# Altium footprint library MCXE31B.PcbLib: 35 footprints (part 1 of 3)
Each footprint in its own frame and in the unit in brackets; x right, y up, seen from the top. Pads: shape width x height; smd on the part's side, far side on the other; paste and mask are expansions set on the pad; w line width, h text height; cw(c..) or ccw(c..) is an arc to the next point about the centre after c.
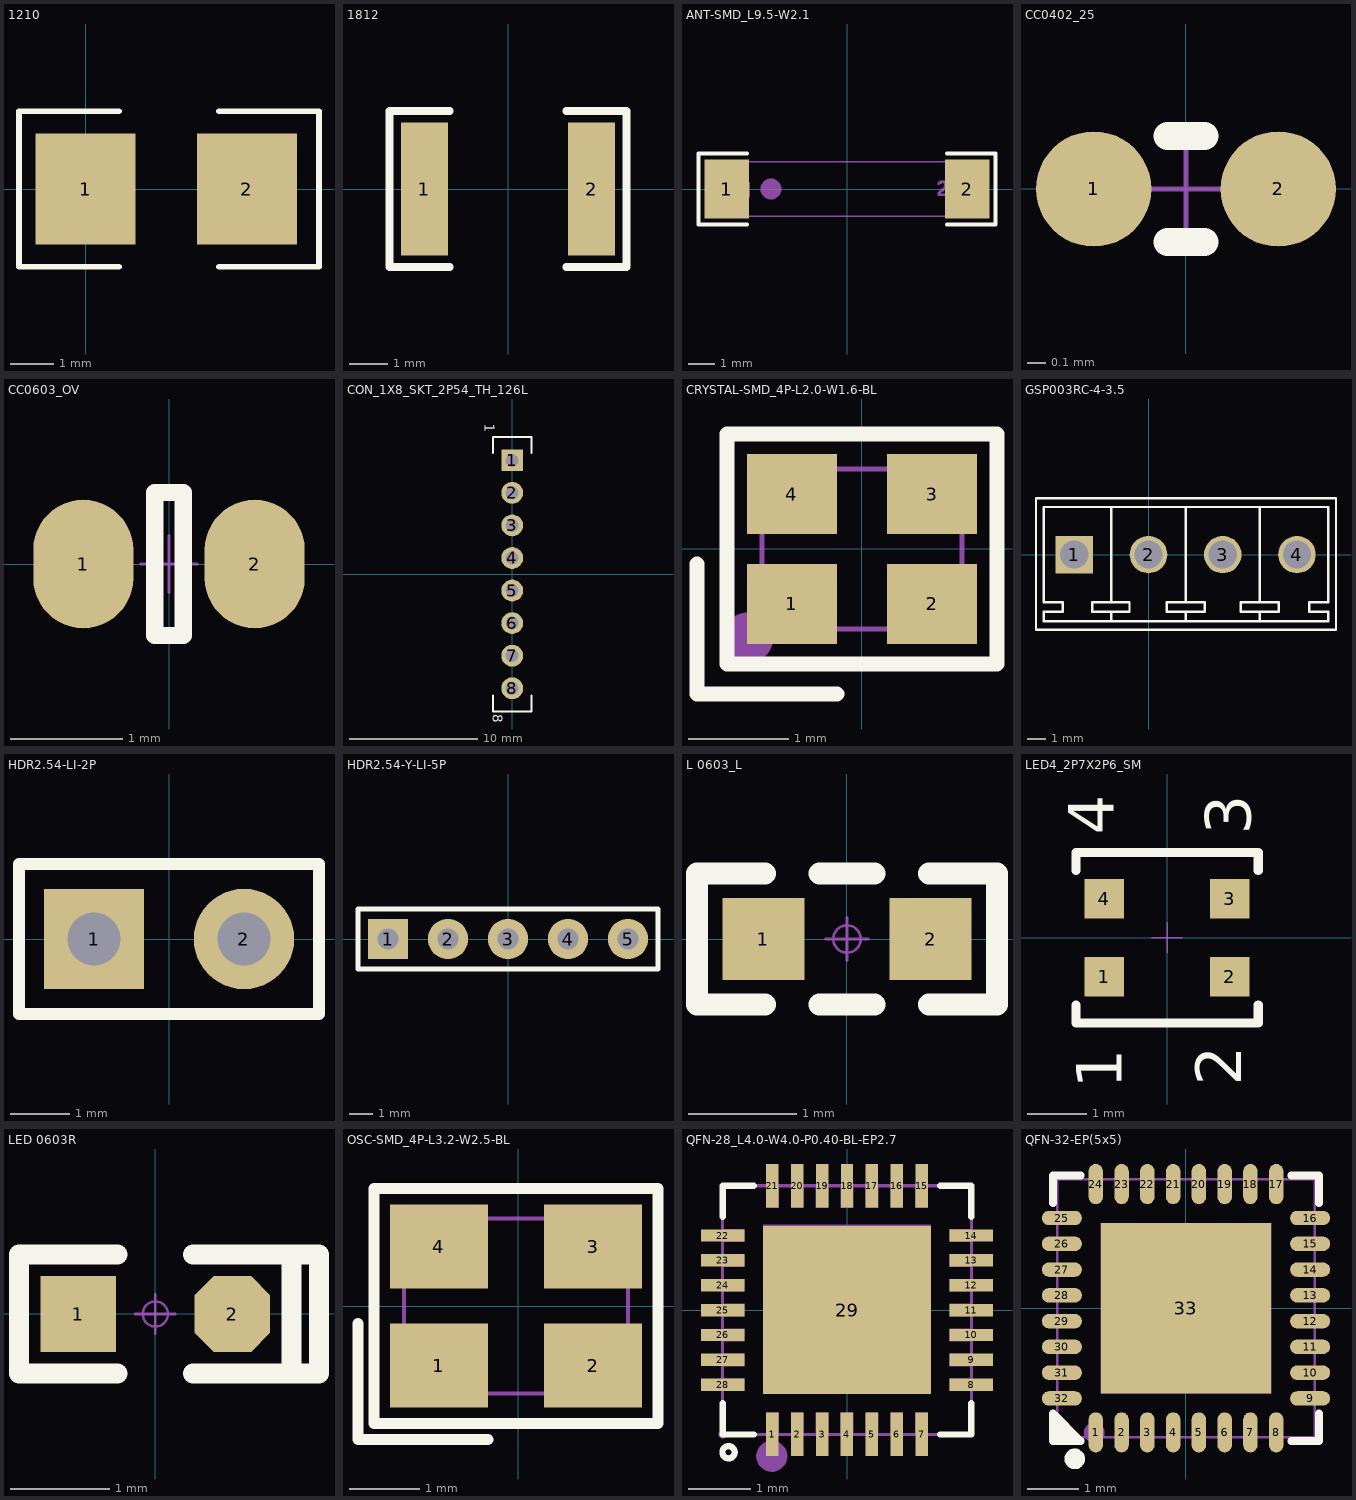
[diagram p0: the footprints below, top view; thin cyan lines are the x and y axes]

## 1210 [mil]
height 609.84
pads (2):
  rect 90x100 smd: 1(0,0) 2(145,0)
Top Overlay:
  lines w5: 30,-70 -60,-70 -60,70 30,70 ; 120,-70 210,-70 210,70 120,70

## 1812 [mm]
height 1.5
pads (2):
  rect 1.2x3.42 smd: 1(-2.15,0) 2(2.15,0)
Top Overlay:
  lines w0.2: -1.5,-2.01 -3.05,-2.01 -3.05,2.01 -1.5,2.01 ; 1.5,-2.01 3.05,-2.01 3.05,2.01 1.5,2.01
3D body "R1812.STEP": height 0.59, standoff -0.01, extent -2.251,-1.601 2.249,1.599

## ANT-SMD_L9.5-W2.1 [mm]
height 13.3
pads (2):
  rect 1.71x2.268 smd paste-100 mask+0.051: 1(-4.63,0) 2(4.63,0)
Top Overlay:
  lines w0.152: -3.851,-1.363 -5.714,-1.363 -5.714,1.363 -3.851,1.363 ; 3.851,-1.363 5.714,-1.363 5.714,1.363 3.851,1.363
Top Paste:
  region: -3.775,-1.034 -3.775,-0.486 -3.875,-0.386 -4.256,-0.386 -4.356,-0.286 -4.356,0.286 -4.256,0.386 -3.875,0.386 -3.775,0.486 -3.775,1.034 -3.875,1.134 -5.385,1.134 -5.485,1.034 -5.485,-1.034 -5.385,-1.134 -3.875,-1.134
  region: 3.775,-1.034 3.775,-0.486 3.875,-0.386 4.256,-0.386 4.356,-0.286 4.356,0.286 4.256,0.386 3.875,0.386 3.775,0.486 3.775,1.034 3.875,1.134 5.385,1.134 5.485,1.034 5.485,-1.034 5.385,-1.134 3.875,-1.134
Bottom Courtyard:
  drawing of 34 lines, arcs and shapes, not listed
Top 3D Body:
  lines w0.051: -4.75,-1.05 4.75,-1.05 4.75,1.05 -4.75,1.05 -4.75,-1.05
Bottom 3D Body:
  region: -4.75,-0.99 -4.725,-0.99 -4.69,-1.025 -4.69,-1.075 -4.725,-1.11 -4.75,-1.11 -4.775,-1.11 -4.81,-1.075 -4.81,-1.025 -4.775,-0.99 -4.75,-0.99
Top Component Center:
  region: -4.75,-1.05 -4.75,1.05 -4.1,1.05 -4.1,-1.05
  region: 4.75,-1.05 4.75,1.05 4.1,1.05 4.1,-1.05

## CC0402_25 [mil]
height 523.62
pads (2):
  round 25 smd: 1(-20,0) 2(20,0)
Top Overlay:
  lines w6: -4,-11.5 4,-11.5 ; -4,11.5 4,11.5
Top Component Center:
  lines w1: -10,0 10,0 ; 0,-10 0,10

## CC0603_OV [mil]
pads (2):
  oval 35x45 smd: 1(-30,0) 2(30,0)
Top Overlay:
  lines w6: -5,-25 5,-25 5,25 -5,25 -5,-25
Top Component Center:
  lines w1: -10,0 10,0 ; 0,-10 0,10

## CON_1X8_SKT_2P54_TH_126L [mil]
pads (8):
  rect 67x67 / inner round 0 / far side rect 67x67 hole 40: 1(0.05,349.98)
  round 67 / inner round 0 / far side round 67 hole 40: 2(0.05,249.98) 3(0.05,149.98) 4(0.05,49.98) 5(0.05,-50.02) 6(0.05,-150.02) 7(0.05,-250.02) 8(0.05,-350.02)
Top Overlay:
  lines w6: -59.11,-371.79 -59.11,-421.79 59.22,-421.79 59.22,-371.79 ; -59.11,371.74 -59.11,421.74 59.22,421.74 59.22,371.74
  text "1" at -85.05,462.02 h30
  text "8" at -59.05,-428.98 h30
Bottom Overlay:
  text "1" at -16.6,415.42 h30
  text "8" at -10.05,-429.98 h30
  text ".Designator" at 17.3,452.23 h30
Top Component Center:
  lines w1: -9.95,349.98 10.05,349.98 ; 0.05,339.98 0.05,359.98

## CRYSTAL-SMD_4P-L2.0-W1.6-BL [mm]
height 13.3
pads (4):
  rect 0.9x0.8 smd paste+0.051: 1(-0.7,-0.55) 2(0.7,-0.55) 3(0.7,0.55) 4(-0.7,0.55)
Top Overlay:
  lines w0.152: -1.65,-0.15 -1.65,-1.45 -0.25,-1.45 ; -1.35,-1.15 -1.35,1.15 1.35,1.15 1.35,-1.15 -1.35,-1.15
Bottom Courtyard:
  circle w0.254: c-1.143,-0.889 r0.127
Top 3D Body:
  lines w0.051: -1,-0.8 1,-0.8 1,0.8 -1,0.8 -1,-0.8
Bottom 3D Body:
  region: -1.06,-0.8 -1.06,-0.775 -1.025,-0.74 -0.975,-0.74 -0.94,-0.775 -0.94,-0.8 -0.94,-0.825 -0.975,-0.86 -1.025,-0.86 -1.06,-0.825 -1.06,-0.8
Top Component Center:
  region: 0.95,0.75 0.95,0.275 0.375,0.275 0.375,0.75
  region: 0.95,-0.275 0.95,-0.75 0.375,-0.75 0.375,-0.275
  region: -0.95,-0.75 -0.95,-0.275 -0.375,-0.275 -0.375,-0.75
  region: -0.95,0.275 -0.95,0.75 -0.375,0.75 -0.375,0.275

## GSP003RC-4-3.5 [mm]
height 7
pads (4):
  rect 2x2 hole 1.5: 1(-3.96,0)
  round 2 hole 1.5: 2(0,0) 3(3.96,0) 4(7.92,0)
Top Overlay:
  lines w0.127: -2.032,-3.048 -1.016,-3.048 -1.016,-2.54 -2.032,-2.54 ; -1.98,-3.556 -1.98,-3.048 -2.996,-3.048 -2.996,-2.54 -1.98,-2.54 -1.98,2.54 ; 1.524,-3.556 5.588,-3.556 9.588,-3.556 9.588,-3.048 8.572,-3.048 8.572,-2.54 9.588,-2.54 9.588,2.54 2.032,2.54 ; 1.98,-3.556 1.98,-3.048 ; 1.98,2.54 1.98,-2.54 ; 2.54,-3.556 -1.524,-3.556 -5.588,-3.556 -5.588,-3.048 -4.572,-3.048 -4.572,-2.54 -5.588,-2.54 -5.588,2.54 -5.08,2.54 -1.524,2.54 2.54,2.54 ; 5.94,-3.556 5.94,-3.048 ; 5.94,2.54 5.94,-2.54 ; 1.98,-3.048 0.964,-3.048 0.964,-2.54 1.98,-2.54 ; 1.98,-3.048 2.996,-3.048 2.996,-2.54 1.98,-2.54 ; 5.94,-3.048 4.924,-3.048 4.924,-2.54 5.94,-2.54 ; 5.94,-3.048 6.956,-3.048 6.956,-2.54 5.94,-2.54 ; -6,-4 6,-4 10,-4 10,3 -6,3 -6,-4

## HDR2.54-LI-2P [mm] "排针，2脚"
pads (2):
  rect 1.7x1.7 hole 0.9: 1(-1.27,0)
  round 1.7 hole 0.9: 2(1.27,0)
Top Overlay:
  lines w0.2: -2.54,-1.27 2.54,-1.27 2.54,1.27 -2.54,1.27 -2.54,-1.27
3D body "HDR2.54-1P.STEP": height 8.5, standoff -3, extent -2.54,-1.27 0,1.27
3D body "HDR2.54-1P.STEP": height 8.5, standoff -3, extent 0,-1.27 2.54,1.27

## HDR2.54-Y-LI-5P [mm] "圆孔排母，5脚"
height 13.3
pads (5):
  rect 1.7x1.7 hole 0.9: 1(-5.08,0)
  round 1.7 hole 0.9: 2(-2.54,0) 3(0,0) 4(2.54,0) 5(5.08,0)
Top Overlay:
  lines w0.2: -6.35,-1.27 -6.35,1.27 6.35,1.27 6.35,-1.27 -6.35,-1.27
3D body "HDR-1P_Y.STEP": height 4.31, standoff -3, extent -6.35,-1.27 -3.81,1.27
3D body "HDR-1P_Y.STEP": height 4.31, standoff -3, extent -3.81,-1.27 -1.27,1.27
3D body "HDR-1P_Y.STEP": height 4.31, standoff -3, extent -1.27,-1.27 1.27,1.27
3D body "HDR-1P_Y.STEP": height 4.31, standoff -3, extent 1.27,-1.27 3.81,1.27
3D body "HDR-1P_Y.STEP": height 4.31, standoff -3, extent 3.81,-1.27 6.35,1.27

## L 0603_L [mil] "小功率贴片电感"
pads (2):
  rect 30x30 smd: 1(-30.59,0) 2(30.59,0)
Top Overlay:
  lines w8: -30,-24 -54.82,-24 -54.82,24 -30,24 ; -10,-24 10,-24 ; -10,24 10,24 ; 30,-24 54.83,-24 54.83,24 30,24
Mechanical 15:
  circle w1: c0,0 r5
  lines w1: -7.87,0 7.88,0 ; 0,-7.87 0,7.88
3D body "0603.STEP": height 31.5, standoff -0.11, extent -31.49,-15.74 31.5,15.75

## LED4_2P7X2P6_SM [mil]
pads (4):
  rect 26x26 smd: 1(-41.3,-25.6) 2(41.3,-25.6) 3(41.3,25.6) 4(-41.3,25.6)
Top Overlay:
  lines w6: -60.1,-44.3 -60.1,-56.2 60.1,-56.2 60.1,-44.3 ; -60.1,44.3 -60.1,56.2 60.1,56.2 60.1,44.3
  text "2" at 48.8,-97.5 h30
  text "4" at -35,68 h30
  text "3" at 55,68 h30
  text "1" at -29.9,-99.7 h30
Top Component Center:
  lines w1: -10,0 10,0 ; 0,-10 0,10

## LED 0603R [mil] "红色0603LED"
height 523.62
pads (2):
  rect 30x30 smd: 1(-30.59,0)
  oct 30x30 smd: 2(30.59,0)
Top Overlay:
  lines w8: -15.01,-23.63 -54.14,-23.63 -54.14,23.62 -15.01,23.62 ; 14.99,-23.63 65,-23.63 65,23.62 14.99,23.62 ; 54.13,-23.63 54.13,23.62
Mechanical 15:
  circle w1: c0,0 r5
  lines w1: -7.88,0 7.87,0 ; 0,-7.88 0,7.87
3D body "LED 0603-R.STEP": height 18.36, standoff -0.16, extent -31.49,-15.78 31.5,15.79
3D body "LED 0603玻璃罩.STEP": height 23.82, standoff 8.07, extent -23.63,-15.75 23.62,15.74

## OSC-SMD_4P-L3.2-W2.5-BL [mm]
pads (4):
  rect 1.4x1.2 smd: 1(-1.129,-0.848) 2(1.071,-0.848) 3(1.071,0.852) 4(-1.129,0.852)
Top Overlay:
  lines w0.152: -2.286,-0.248 -2.286,-1.905 -0.429,-1.905 ; -2.057,-1.676 2,-1.676 2,1.681 -2.057,1.681 -2.057,-1.676
Bottom Courtyard:
  circle w0.254: c-1.299,-0.887 r0.127
Mechanical 15:
  region: -1.529,-0.348 -0.629,-0.348 -0.629,-1.148 -1.529,-1.148
  region: 0.571,-0.348 1.471,-0.348 1.471,-1.148 0.571,-1.148
  region: 0.571,1.152 1.471,1.152 1.471,0.352 0.571,0.352
  region: -1.529,1.152 -0.629,1.152 -0.629,0.352 -1.529,0.352
  region: -1.569,-1.248 -1.57,-1.224 -1.605,-1.19 -1.653,-1.19 -1.687,-1.224 -1.689,-1.248 -1.688,-1.272 -1.653,-1.305 -1.605,-1.305 -1.57,-1.272
  lines w0.051: -1.629,-1.248 1.571,-1.248 1.571,1.252 -1.629,1.252 -1.629,-1.248

## QFN-28_L4.0-W4.0-P0.40-BL-EP2.7 [mm]
pads (29):
  rect 0.2x0.7 smd paste-100 mask+0.051: 1(-1.2,-2) 2(-0.8,-2) 3(-0.4,-2) 4(-0.001,-2) 5(0.4,-2) 6(0.8,-2) 7(1.2,-2) 15(1.2,2) 16(0.8,2) 17(0.4,2) 18(0,2) 19(-0.4,2) 20(-0.8,2) 21(-1.2,2)
  rect 0.7x0.2 smd paste-100 mask+0.051: 8(2,-1.2) 9(2,-0.8) 10(2,-0.4) 11(1.999,0) 12(2,0.4) 13(2,0.8) 14(2,1.2) 22(-2,1.2) 23(-2,0.8) 24(-2,0.4) 25(-2,0) 26(-2,-0.4) 27(-2,-0.8) 28(-2,-1.2)
  rect 2.7x2.7 smd paste-100 mask+0.051: 29(0,0)
Top Overlay:
  circle w0.1: c-1.905,-2.286 r0.099
  lines w0.102: -2,-1.5 -2,-2 -1.5,-2 ; -2,1.5 -2,2 -1.5,2 ; 1.5,-2 2,-2 2,-1.5 ; 1.5,2 2,2 2,1.5
Top Paste:
  region: 1.3,1.65 1.3,2.35 1.1,2.35 1.1,1.65
  region: 0.7,2.35 0.7,1.65 0.9,1.65 0.9,2.35
  region: -1.1,1.65 -1.1,2.35 -1.3,2.35 -1.3,1.65
  region: -0.7,1.65 -0.7,2.35 -0.9,2.35 -0.9,1.65
  region: -0.3,1.65 -0.3,2.35 -0.5,2.35 -0.5,1.65
  region: 0.3,2.35 0.3,1.65 0.5,1.65 0.5,2.35
  region: 0.1,1.65 0.1,2.35 -0.1,2.35 -0.1,1.65
  region: 1.08,-1.08 1.08,1.08 -1.08,1.08 -1.08,-1.08
  region: -2.35,1.3 -2.35,1.1 -1.65,1.1 -1.65,1.3
  region: 2.35,1.1 2.35,1.3 1.65,1.3 1.65,1.1
  region: -2.35,0.9 -2.35,0.7 -1.65,0.7 -1.65,0.9
  region: 2.35,0.7 2.35,0.9 1.65,0.9 1.65,0.7
  region: -2.35,0.5 -2.35,0.3 -1.65,0.3 -1.65,0.5
  region: 2.35,0.3 2.35,0.5 1.65,0.5 1.65,0.3
  region: -2.35,0.1 -2.35,-0.1 -1.65,-0.1 -1.65,0.1
  region: 2.349,-0.1 2.349,0.1 1.649,0.1 1.649,-0.1
  region: -2.35,-0.3 -2.35,-0.5 -1.65,-0.5 -1.65,-0.3
  region: 2.35,-0.5 2.35,-0.3 1.65,-0.3 1.65,-0.5
  region: -2.35,-0.7 -2.35,-0.9 -1.65,-0.9 -1.65,-0.7
  region: 2.35,-0.9 2.35,-0.7 1.65,-0.7 1.65,-0.9
  region: -2.35,-1.1 -2.35,-1.3 -1.65,-1.3 -1.65,-1.1
  region: 1.65,-1.1 1.65,-1.3 2.35,-1.3 2.35,-1.1
  region: -1.1,-2.35 -1.1,-1.65 -1.3,-1.65 -1.3,-2.35
  region: -0.101,-1.65 -0.101,-2.35 0.099,-2.35 0.099,-1.65
  region: -0.7,-2.35 -0.7,-1.65 -0.9,-1.65 -0.9,-2.35
  region: -0.3,-2.35 -0.3,-1.65 -0.5,-1.65 -0.5,-2.35
  region: 1.3,-2.35 1.3,-1.65 1.1,-1.65 1.1,-2.35
  region: 0.3,-1.65 0.3,-2.35 0.5,-2.35 0.5,-1.65
  region: 0.9,-2.35 0.9,-1.65 0.7,-1.65 0.7,-2.35
Bottom Courtyard:
  circle w0.25: c-1.21,-2.35 r0.125
Top 3D Body:
  lines w0.051: -2,-2 -2,2 2,2 2,-2 -2,-2
Bottom 3D Body:
  region: -1.958,-2.042 -1.975,-2.06 -2.025,-2.06 -2.06,-2.025 -2.06,-1.975 -2.042,-1.958 -2.025,-1.94 -1.975,-1.94 -1.94,-1.975 -1.94,-2.025 -1.958,-2.042
Top Component Center:
  region: -2,-1.3 -2,-1.1 -1.65,-1.1 -1.65,-1.3
  region: -2,-0.9 -2,-0.7 -1.65,-0.7 -1.65,-0.9
  region: -2,-0.5 -2,-0.3 -1.65,-0.3 -1.65,-0.5
  region: -2,-0.1 -2,0.1 -1.65,0.1 -1.65,-0.1
  region: -2,0.3 -2,0.5 -1.65,0.5 -1.65,0.3
  region: -2,0.7 -2,0.9 -1.65,0.9 -1.65,0.7
  region: -2,1.1 -2,1.3 -1.65,1.3 -1.65,1.1
  region: -1.3,1.65 -1.3,2 -1.1,2 -1.1,1.65
  region: -0.9,1.65 -0.9,2 -0.7,2 -0.7,1.65
  region: -0.5,1.65 -0.5,2 -0.3,2 -0.3,1.65
  region: -0.1,1.65 -0.1,2 0.1,2 0.1,1.65
  region: 0.3,1.65 0.3,2 0.5,2 0.5,1.65
  region: 0.7,1.65 0.7,2 0.9,2 0.9,1.65
  region: 1.1,1.65 1.1,2 1.3,2 1.3,1.65
  region: 1.65,1.1 1.65,1.3 2,1.3 2,1.1
  region: 1.65,0.7 1.65,0.9 2,0.9 2,0.7
  region: 1.65,0.3 1.65,0.5 2,0.5 2,0.3
  region: 1.65,-0.1 1.65,0.1 2,0.1 2,-0.1
  region: 1.65,-0.5 1.65,-0.3 2,-0.3 2,-0.5
  region: 1.65,-0.9 1.65,-0.7 2,-0.7 2,-0.9
  region: 1.65,-1.3 1.65,-1.1 2,-1.1 2,-1.3
  region: -1.3,-2 -1.3,-1.65 -1.1,-1.65 -1.1,-2
  region: -0.9,-2 -0.9,-1.65 -0.7,-1.65 -0.7,-2
  region: -0.5,-2 -0.5,-1.65 -0.3,-1.65 -0.3,-2
  region: 1.1,-2 1.1,-1.65 1.3,-1.65 1.3,-2
  region: 0.7,-2 0.7,-1.65 0.9,-1.65 0.9,-2
  region: 0.3,-2 0.3,-1.65 0.5,-1.65 0.5,-2
  region: -0.101,-2 -0.101,-1.65 0.099,-1.65 0.099,-2
  region: -1.35,1.37 1.35,1.37 1.35,-1.33 -1.35,-1.33

## QFN-32-EP(5x5) [mm]
pads (33):
  oval 0.28x0.78 smd paste-100 mask+0.051: 1(-1.75,-2.407) 2(-1.25,-2.407) 3(-0.75,-2.407) 4(-0.25,-2.407) 5(0.25,-2.407) 6(0.75,-2.407) 7(1.25,-2.407) 8(1.75,-2.407) 17(1.75,2.407) 18(1.25,2.407) 19(0.75,2.407) 20(0.25,2.407) 21(-0.25,2.407) 22(-0.75,2.407) 23(-1.25,2.407) 24(-1.75,2.407)
  oval 0.78x0.28 smd paste-100 mask+0.051: 9(2.407,-1.75) 10(2.407,-1.25) 11(2.407,-0.75) 12(2.407,-0.25) 13(2.407,0.25) 14(2.407,0.75) 15(2.407,1.25) 16(2.407,1.75) 25(-2.407,1.75) 26(-2.407,1.25) 27(-2.407,0.75) 28(-2.407,0.25) 29(-2.407,-0.25) 30(-2.407,-0.75) 31(-2.407,-1.25) 32(-2.407,-1.75)
  rect 3.3x3.3 smd paste-100 mask+0.051: 33(0,0)
Top Overlay:
  circle w0.2: c-2.159,-2.921 r0.1
  region: -2.042,-2.576 -2.576,-2.576 -2.54,-2.032
  lines w0.152: -2.576,-2.042 -2.576,-2.576 -2.042,-2.576 ; -2.576,2.042 -2.576,2.576 -2.042,2.576 ; -2.549,-2.07 -2.069,-2.549 ; 2.042,-2.576 2.576,-2.576 2.576,-2.042 ; 2.042,2.576 2.576,2.576 2.576,2.042
Top Paste:
  drawing of 33 lines, arcs and shapes, not listed
Bottom Courtyard:
  lines w0.051: -2.5,-2.5 -2.5,2.5 2.5,2.5 2.5,-2.5 -2.5,-2.5
Bottom 3D Body:
  region: -2.44,-2.5 -2.44,-2.525 -2.475,-2.56 -2.525,-2.56 -2.56,-2.525 -2.56,-2.5 -2.56,-2.475 -2.525,-2.44 -2.475,-2.44 -2.44,-2.475
Top Component Center:
  drawing of 33 lines, arcs and shapes, not listed
Bottom Assembly:
  circle w0.2: c-1.778,-2.413 r0.1